# Altium footprint library Diode-SMD-SMA.PcbLib: 1 footprints
Each footprint in its own frame and in the unit in brackets; x right, y up, seen from the top. Pads: shape width x height; smd on the part's side, far side on the other; paste and mask are expansions set on the pad; w line width, h text height; cw(c..) or ccw(c..) is an arc to the next point about the centre after c.
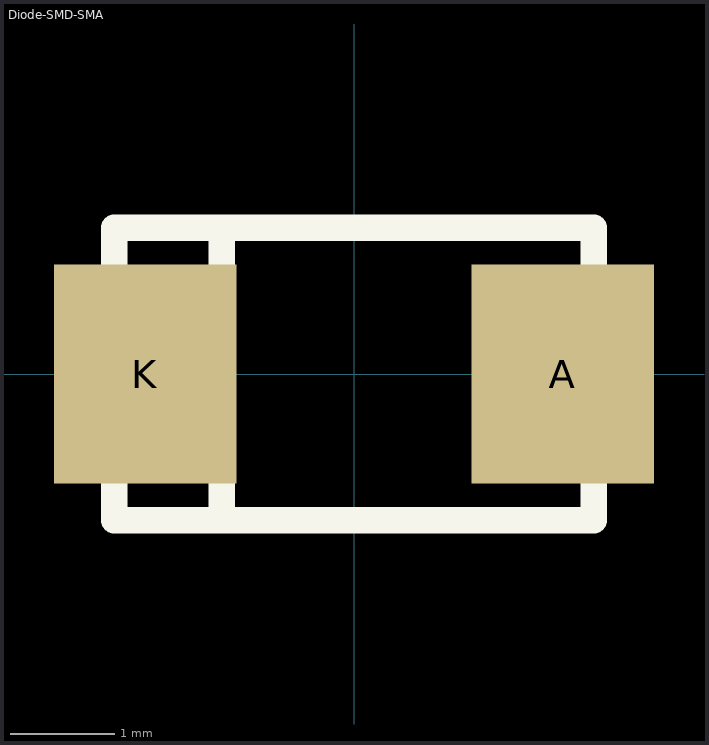
[diagram p0: the footprint, top view; thin cyan lines are the x and y axes]

## Diode-SMD-SMA [mm] "Diode-SMD-SMA"
pads (2):
  rect 1.75x2.1 smd: A(2,0) K(-2,0)
Top Overlay:
  lines w0.254: -1.27,-1.397 -1.27,1.397 ; -2.3,-1.4 -2.3,1.4 2.3,1.4 2.3,-1.4 -2.3,-1.4
3D body "Diode SMA.stp": height 2.41, standoff 0, extent -2.64,-1.523 2.64,1.397